# Altium footprint library SnapEDApcb.PcbLib: 1 footprints
Each footprint in its own frame and in the unit in brackets; x right, y up, seen from the top. Pads: shape width x height; smd on the part's side, far side on the other; paste and mask are expansions set on the pad; w line width, h text height; cw(c..) or ccw(c..) is an arc to the next point about the centre after c.
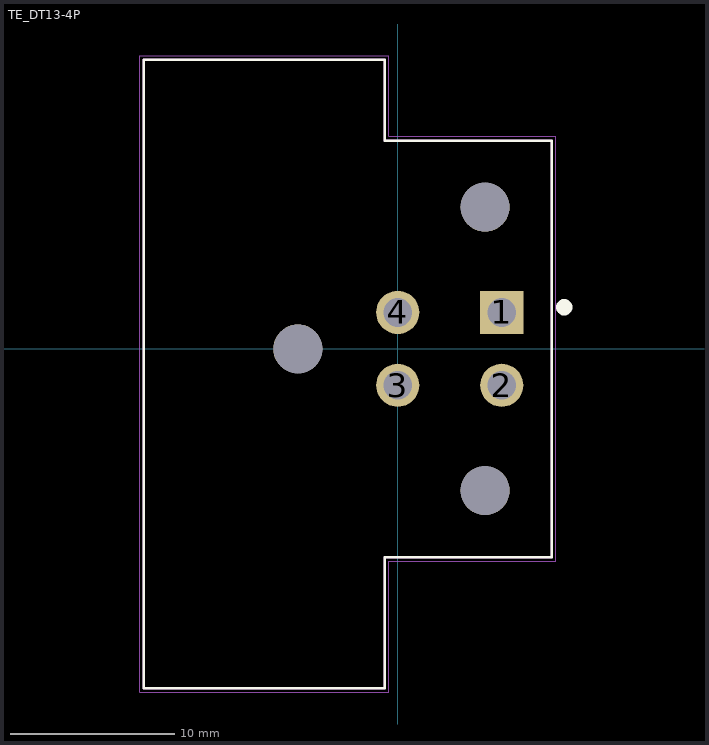
[diagram p0: the footprint, top view; thin cyan lines are the x and y axes]

## TE_DT13-4P [mm]
pads (7):
  rect 2.64x2.64 hole 1.76: 1(6.35,2.225)
  round 2.64 hole 1.76: 2(6.35,-2.225) 3(0,-2.225) 4(0,2.225)
  round 2.99 hole 2.99 unplated: ""(-6.1,0) ""(5.33,-8.65) ""(5.33,8.65)
Top Overlay:
  circle w0.5: c10.16,2.54 r0.25
  lines w0.152: -15.5,-20.71 -15.5,17.64 -0.8,17.64 -0.8,12.715 9.39,12.715 9.39,-12.715 -0.8,-12.715 -0.8,-20.71 -15.5,-20.71
Mechanical 13:
  lines w0.152: -15.5,-20.71 -15.5,17.64 -0.8,17.64 -0.8,12.715 9.39,12.715 9.39,-12.715 -0.8,-12.715 -0.8,-20.71 -15.5,-20.71
Mechanical 15:
  lines w0.05: -15.75,-20.96 -0.55,-20.96 -0.55,-12.965 9.64,-12.965 9.64,12.965 -0.55,12.965 -0.55,17.89 -15.75,17.89 -15.75,-20.96